# Altium schematic symbol library KRM55LR72A475KH01K.SchLib: 1 symbol
Pins are listed as number, name and electrical type; pins without a type are passive.

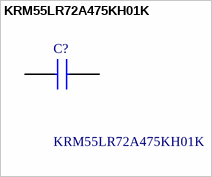
[diagram p0: symbol KRM55LR72A475KH01K]

## KRM55LR72A475KH01K
designator C?
Capacitor KRM55 L=6.1mm W=5.3mm T=2.8mm; Manufacturer_Name: Murata Electronics; Geometry.Height: 3mm; Mouser Part Number: 81-KRM55LR72A475KH1K; Mouser Price/Stock: https://www.mouser.co.uk/ProductDetail/Murata-Electronics/KRM55LR72A475KH01K?qs=TpyF2b7C1Q9om5n%252BU7Sk%252BA%3D%3D; Manufacturer_Part_Number: KRM55LR72A475KH01K; Datasheet Link: https://psearch.en.murata.com/capacitor/product/KRM55LR72A475KH01%23.html
footprint CAPC6153X300N
pins: 1, 2